# Altium footprint library Resistors THD.PcbLib: 108 footprints (part 1 of 7)
Each footprint in its own frame and in the unit in brackets; x right, y up, seen from the top. Pads: shape width x height; smd on the part's side, far side on the other; paste and mask are expansions set on the pad; w line width, h text height; cw(c..) or ccw(c..) is an arc to the next point about the centre after c.
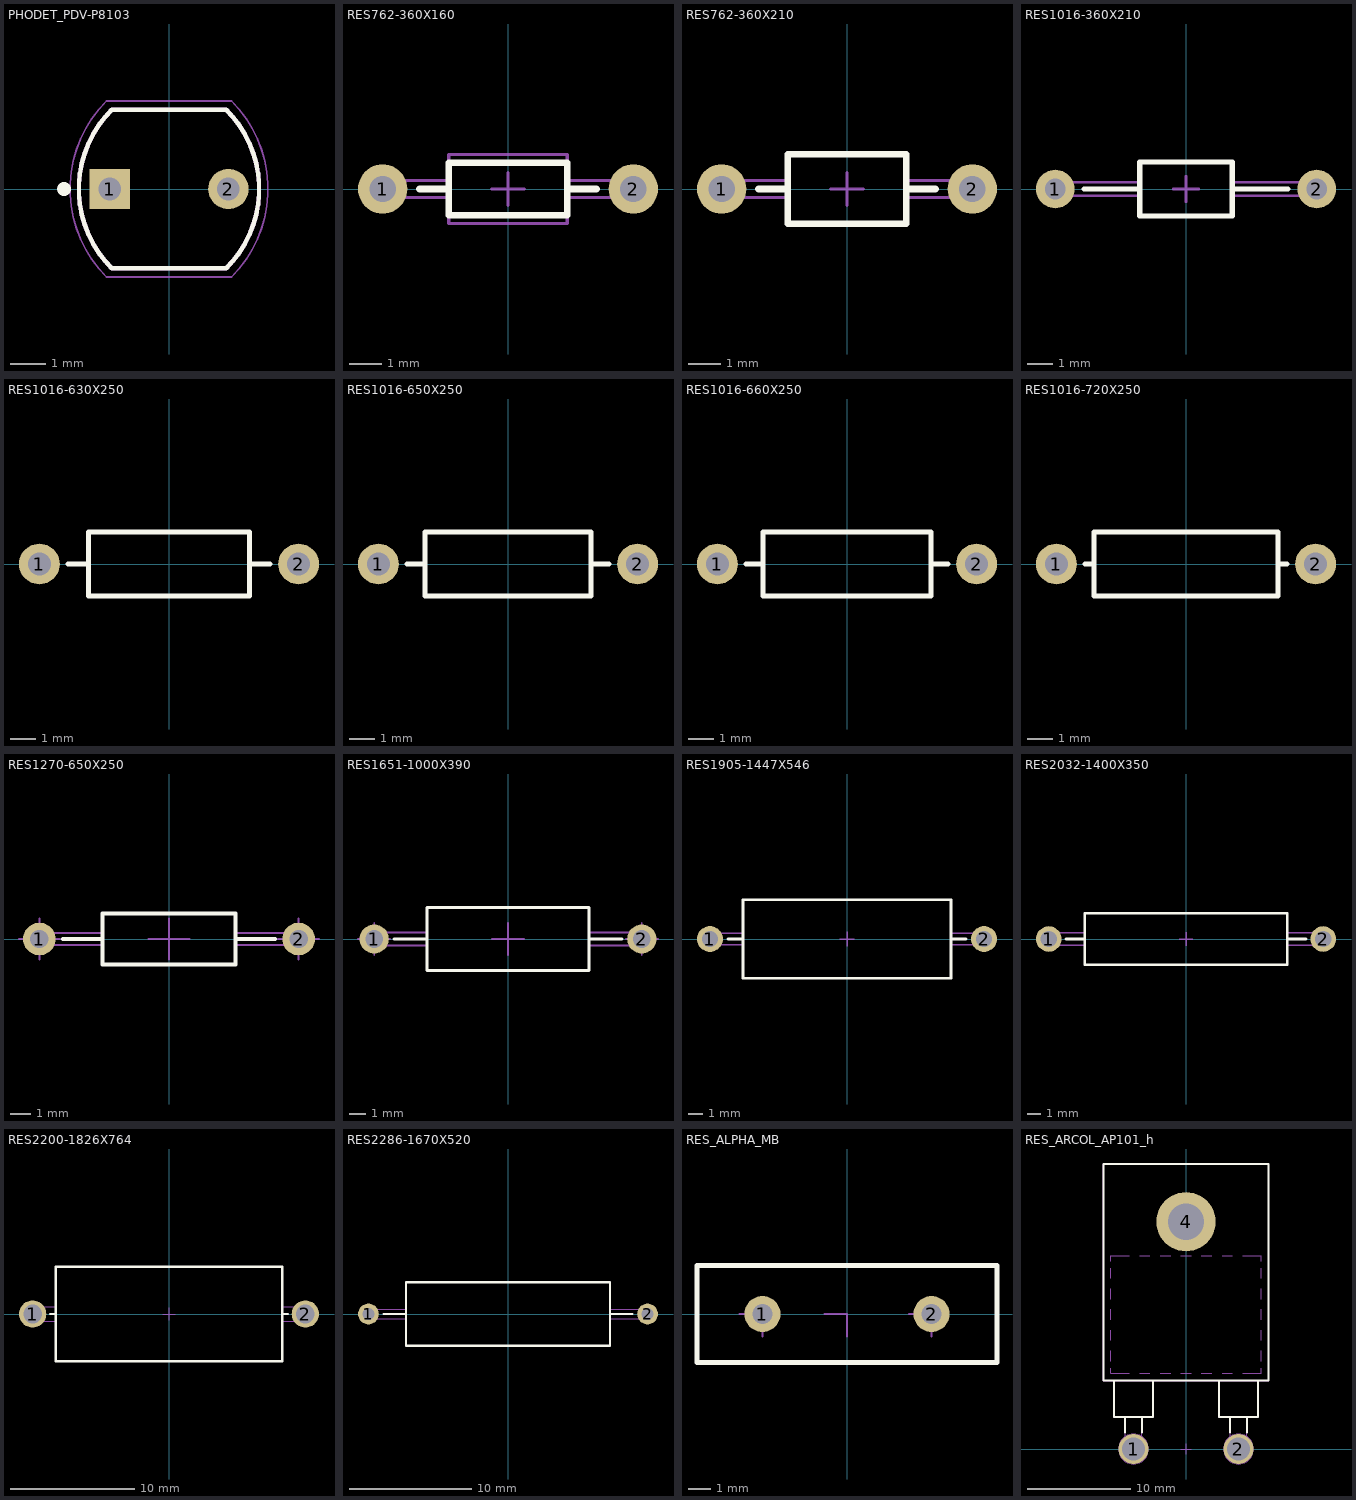
[diagram p0: the footprints below, top view; thin cyan lines are the x and y axes]

## PHODET_PDV-P8103 [mm]
pads (2):
  rect 1.158x1.158 hole 0.65: 1(-1.7,0)
  round 1.158 hole 0.65: 2(1.7,0)
Top Overlay:
  circle w0.2: c-3,0 r0.1
  lines w0.127: -1.64,-2.27 cw(c0.63,0) -1.64,2.27 1.64,2.27 cw(c-0.63,0) 1.64,-2.27 -1.64,-2.27
Mechanical 13:
  circle w0.2: c-1.7,0 r0.1
  lines w0.127: -1.64,-2.27 cw(c0.63,0) -1.64,2.27 1.64,2.27 cw(c-0.63,0) 1.64,-2.27 -1.64,-2.27
Mechanical 15:
  lines w0.05: -1.79,-2.52 cw(c0.73,0) -1.79,2.52 1.79,2.52 cw(c-0.73,0) 1.79,-2.52 -1.79,-2.52
3D body "PDV-P8103.STEP": height 2.38, standoff -26, extent -2.54,-2.145 2.54,2.145

## RES762-360X160 [mm] "Resistor, Axial, Pad spacing 7.62mm - Body Lengh 3.6mm X Body Diameter 1.6mm"
height 1.6
pads (2):
  round 1.5 hole 0.8: 1(-3.81,0) 2(3.81,0)
Top Overlay:
  lines w0.2: -2.69,0 -1.8,0 ; 1.8,0 2.69,0 ; -1.8,-0.8 1.8,-0.8 1.8,0.8 -1.8,0.8 -1.8,-0.8
Mechanical 8:
  lines w0.1: -4.31,0 -3.81,0 ; -3.81,-0.5 -3.81,0 ; -3.81,0.5 -3.81,0 ; -3.31,0 -3.81,0 ; -0.5,0 0,0 ; 0,-0.5 0,0 ; 0,0.5 0,0 ; 0.5,0 0,0 ; 3.31,0 3.81,0 ; 3.81,-0.5 3.81,0 ; 3.81,0.5 3.81,0 ; 4.31,0 3.81,0
Mechanical 14:
  lines w0.1: -1.8,-0.26 -3.81,-0.26 cw(c-3.81,0) -3.81,0.26 -1.8,0.26 ; 1.8,-0.26 3.81,-0.26 ccw(c3.81,0) 3.81,0.26 1.8,0.26 ; -1.8,-1.05 1.8,-1.05 1.8,1.05 -1.8,1.05 -1.8,-1.05
3D body "RES762-360X160.stp": height 1.6, standoff -3.85, extent -4.068,-0.8 4.068,0.8

## RES762-360X210 [mm] "Resistor, Axial, Pad spacing 7.62mm - Body Lengh 3.6mm X Body Diameter 2.1mm"
height 2.1
pads (2):
  round 1.5 hole 0.8: 1(-3.81,0) 2(3.81,0)
Top Overlay:
  lines w0.2: -2.69,0 -1.8,0 ; 1.8,0 2.69,0 ; -1.8,-1.05 1.8,-1.05 1.8,1.05 -1.8,1.05 -1.8,-1.05
Mechanical 8:
  lines w0.1: -4.31,0 -3.81,0 ; -3.81,-0.5 -3.81,0 ; -3.81,0.5 -3.81,0 ; -3.31,0 -3.81,0 ; -0.5,0 0,0 ; 0,-0.5 0,0 ; 0,0.5 0,0 ; 0.5,0 0,0 ; 3.31,0 3.81,0 ; 3.81,-0.5 3.81,0 ; 3.81,0.5 3.81,0 ; 4.31,0 3.81,0
Mechanical 14:
  lines w0.1: -1.8,-0.26 -3.81,-0.26 cw(c-3.81,0) -3.81,0.26 -1.8,0.26 ; 1.8,-0.26 3.81,-0.26 ccw(c3.81,0) 3.81,0.26 1.8,0.26 ; -1.8,-1.05 1.8,-1.05 1.8,1.05 -1.8,1.05 -1.8,-1.05
3D body "RES762-360X210.stp": height 2.1, standoff -3.6, extent -4.07,-1.05 4.07,1.05

## RES1016-360X210 [mm] "Resistor, Axial, Pad spacing 10.16 mm - Body Lengh 3.6mm X Body Diameter 2.1mm"
height 2.1
pads (2):
  round 1.5 hole 0.8: 1(-5.08,0) 2(5.08,0)
Top Overlay:
  lines w0.2: -3.96,0 -1.8,0 ; 1.8,0 3.96,0 ; -1.8,-1.05 1.8,-1.05 1.8,1.05 -1.8,1.05 -1.8,-1.05
Mechanical 8:
  lines w0.1: -5.58,0 -5.08,0 ; -5.08,-0.5 -5.08,0 ; -5.08,0.5 -5.08,0 ; -4.58,0 -5.08,0 ; -0.5,0 0,0 ; 0,-0.5 0,0 ; 0,0.5 0,0 ; 0.5,0 0,0 ; 4.58,0 5.08,0 ; 5.08,-0.5 5.08,0 ; 5.08,0.5 5.08,0 ; 5.58,0 5.08,0
Mechanical 14:
  lines w0.1: -1.8,-0.26 -5.08,-0.26 cw(c-5.08,0) -5.08,0.26 -1.8,0.26 ; 1.8,-0.26 5.08,-0.26 ccw(c5.08,0) 5.08,0.26 1.8,0.26 ; -1.8,-1.05 1.8,-1.05 1.8,1.05 -1.8,1.05 -1.8,-1.05
3D body "RES1016-360X210.stp": height 2.1, standoff -3.6, extent -5.34,-1.05 5.34,1.05

## RES1016-630X250 [mm] "Resistor, Axial, Pad spacing 10.16 mm - Body Lengh 6.3mm X Body Diameter 2.5mm"
height 2.5
pads (2):
  round 1.6 hole 0.9: 1(-5.08,0) 2(5.08,0)
Top Overlay:
  lines w0.2: -3.95,0 -3.15,0 ; 3.15,0 3.95,0 ; -3.15,-1.25 3.15,-1.25 3.15,1.25 -3.15,1.25 -3.15,-1.25
Mechanical 14:
  lines w0.1: -3.95,0 -3.15,0 ; 3.15,0 3.95,0 ; -3.15,-1.25 -3.15,1.25 3.15,1.25 3.15,-1.25 -3.15,-1.25
3D body "RES1016-630X250.stp": height 2.51, standoff -3.2, extent -5.38,-1.27 5.38,1.26

## RES1016-650X250 [mm] "Resistor, Axial, Pad spacing 10.16 mm - Body Lengh 6.5mm X Body Diameter 2.5mm"
height 2.5
pads (2):
  round 1.6 hole 0.9: 1(-5.08,0) 2(5.08,0)
Top Overlay:
  lines w0.2: -3.95,0 -3.25,0 ; 3.25,0 3.95,0 ; -3.25,-1.25 -3.25,1.25 3.25,1.25 3.25,-1.25 -3.25,-1.25
Mechanical 14:
  lines w0.1: -3.95,0 -3.25,0 ; 3.25,0 3.95,0 ; -3.25,-1.25 3.25,-1.25 3.25,1.25 -3.25,1.25 -3.25,-1.25
3D body "RES1016-650X250.stp": height 2.51, standoff -3.2, extent -5.38,-1.27 5.38,1.26

## RES1016-660X250 [mm] "Resistor, Axial, Pad spacing 10.16 mm - Body Lengh 6.6mm X Body Diameter 2.5mm"
height 2.5
pads (2):
  round 1.6 hole 0.9: 1(-5.08,0) 2(5.08,0)
Top Overlay:
  lines w0.2: -3.95,0 -3.3,0 ; 3.3,0 3.95,0 ; -3.3,-1.25 3.3,-1.25 3.3,1.25 -3.3,1.25 -3.3,-1.25
Mechanical 14:
  lines w0.1: -3.95,0 -3.3,0 ; 3.3,0 3.95,0 ; -3.3,-1.25 -3.3,1.25 3.3,1.25 3.3,-1.25 -3.3,-1.25
3D body "RES1016-660X250.stp": height 2.5, standoff -3.1, extent -5.38,-1.25 5.38,1.25

## RES1016-720X250 [mm] "Resistor, Axial, Pad spacing 10.16 mm - Body Lengh 7.2mm X Body Diameter 2.5mm"
height 2.5
pads (2):
  round 1.6 hole 0.9: 1(-5.08,0) 2(5.08,0)
Top Overlay:
  lines w0.2: -3.95,0 -3.6,0 ; 3.6,0 3.95,0 ; -3.6,-1.25 3.6,-1.25 3.6,1.25 -3.6,1.25 -3.6,-1.25
Mechanical 14:
  lines w0.1: -3.95,0 -3.6,0 ; 3.6,0 3.95,0 ; -3.6,-1.25 -3.6,1.25 3.6,1.25 3.6,-1.25 -3.6,-1.25
3D body "RES1016-720X250.stp": height 2.5, standoff -3.2, extent -5.38,-1.25 5.38,1.25

## RES1270-650X250 [mm] "Resistor, Axial, Pad spacing 10.16 mm - Body Lengh 6.6mm X Body Diameter 2.5mm"
height 2.5
pads (2):
  round 1.6 hole 0.9: 1(-6.35,0) 2(6.35,0)
Top Overlay:
  lines w0.2: -5.2,0 -3.25,0 ; 3.25,0 5.2,0 ; -3.25,-1.25 -3.25,1.25 3.25,1.25 3.25,-1.25 -3.25,-1.25
Mechanical 8:
  lines w0.1: -7.35,0 -6.35,0 ; -6.35,-1 -6.35,0 ; -6.35,1 -6.35,0 ; -5.35,0 -6.35,0 ; -1,0 0,0 ; 0,-1 0,0 ; 0,1 0,0 ; 1,0 0,0 ; 5.35,0 6.35,0 ; 6.35,-1 6.35,0 ; 6.35,1 6.35,0 ; 7.35,0 6.35,0
Mechanical 14:
  lines w0.1: -3.25,-0.3 -6.336,-0.3 cw(c-6.35,0) -6.343,0.3 -3.25,0.3 ; 3.25,-0.3 6.35,-0.3 ccw(c6.35,0) 6.35,0.3 3.25,0.3 ; -3.25,-1.25 3.25,-1.25 3.25,1.25 -3.25,1.25 -3.25,-1.25
3D body "RES1270-650X250.stp": height 2.5, standoff -3.6, extent -6.65,-1.25 6.65,1.25

## RES1651-1000X390 [mm] "Resistor, Axial, Pad spacing 16.51mm - Body Lengh 10mm X Body Diameter 3.9mm"
height 3.9
pads (2):
  round 1.8 hole 1.1: 1(-8.255,0) 2(8.255,0)
Top Overlay:
  lines w0.2: -7.018,0 -5,0 ; 5,0 7.018,0 ; -5,-1.95 -5,1.95 ; -5,-1.95 5,-1.95 ; -5,-1.95 5,-1.95 ; -5,-1.95 -5,1.95 ; -5,1.95 5,1.95 ; -5,1.95 5,1.95 ; 5,-1.95 5,1.95 ; 5,-1.95 5,1.95
Mechanical 8:
  lines w0.1: -9.255,0 -8.255,0 ; -8.255,-1 -8.255,0 ; -8.255,1 -8.255,0 ; -7.255,0 -8.255,0 ; -1,0 0,0 ; 0,-1 0,0 ; 0,1 0,0 ; 1,0 0,0 ; 7.255,0 8.255,0 ; 8.255,-1 8.255,0 ; 8.255,1 8.255,0 ; 9.255,0 8.255,0
Mechanical 14:
  lines w0.1: -5,-0.4 -8.255,-0.4 cw(c-8.255,0) -8.255,0.4 -5,0.4 ; 5,-0.4 8.255,-0.4 ccw(c8.255,0) 8.255,0.4 5,0.4 ; -5,-1.95 5,-1.95 5,1.95 -5,1.95 -5,-1.95
3D body "RES1651-1000X390.stp": height 3.9, standoff -3.8, extent -8.645,-1.95 8.645,1.95

## RES1905-1447X546 [mm] "Resistor, Axial, Pad spacing 19.05mm - Body Lengh 14.22mm X Body Diameter 5.21mm"
height 5.46
pads (2):
  round 1.8 hole 1.1: 1(-9.525,0) 2(9.525,0)
Top Overlay:
  lines w0.2: -8.275,0 -7.235,0 ; 7.235,0 8.275,0 ; -7.235,-2.73 -7.235,2.73 7.235,2.73 7.235,-2.73 -7.235,-2.73
Mechanical 8:
  lines w0.1: -10.025,0 -9.525,0 ; -9.525,-0.5 -9.525,0 ; -9.525,0.5 -9.525,0 ; -9.025,0 -9.525,0 ; -0.5,0 0,0 ; 0,-0.5 0,0 ; 0,0.5 0,0 ; 0.5,0 0,0 ; 9.025,0 9.525,0 ; 9.525,-0.5 9.525,0 ; 9.525,0.5 9.525,0 ; 10.025,0 9.525,0
Mechanical 14:
  lines w0.1: -7.235,-0.4 -9.525,-0.4 cw(c-9.525,0) -9.525,0.4 -7.235,0.4 ; 7.235,-0.4 9.525,-0.4 ccw(c9.525,0) 9.525,0.4 7.235,0.4 ; -7.235,-2.73 -7.235,2.73 7.235,2.73 7.235,-2.73 -7.235,-2.73
3D body "RES1905-1447X546.stp": height 5.46, standoff -3.6, extent -9.931,-2.73 9.932,2.73

## RES2032-1400X350 [mm] "Resistor, Axial, Pad spacing 20.32mm - Body Lengh 14mm X Body Diameter 3.5mm"
height 3.8
pads (2):
  round 1.9 hole 1.2: 1(-10.16,0) 2(10.16,0)
Top Overlay:
  lines w0.2: -8.887,0 -7.5,0 ; 7.5,0 8.887,0 ; -7.5,-1.9 7.5,-1.9 7.5,1.9 -7.5,1.9 -7.5,-1.9
Mechanical 8:
  lines w0.1: -10.66,0 -10.16,0 ; -10.16,-0.5 -10.16,0 ; -10.16,0.5 -10.16,0 ; -9.66,0 -10.16,0 ; -0.5,0 0,0 ; 0,-0.5 0,0 ; 0,0.5 0,0 ; 0.5,0 0,0 ; 9.66,0 10.16,0 ; 10.16,-0.5 10.16,0 ; 10.16,0.5 10.16,0 ; 10.66,0 10.16,0
Mechanical 14:
  lines w0.1: -7.5,-0.45 -10.16,-0.45 cw(c-10.16,0) -10.16,0.45 -7.5,0.45 ; 7.5,-0.45 10.16,-0.45 ccw(c10.16,0) 10.16,0.45 7.5,0.45 ; -7.5,-1.9 7.5,-1.9 7.5,1.9 -7.5,1.9 -7.5,-1.9
3D body "RES2032-1400X350.stp": height 3.8, standoff -3.6, extent -10.61,-1.9 10.61,1.9

## RES2200-1826X764 [mm] "Resistor, Axial, Pad spacing 22mm - Body Lengh 18.26mm X Body Diameter 7.64mm"
height 7.64
pads (2):
  round 2.2 hole 1.5: 1(-11,0) 2(11,0)
Top Overlay:
  lines w0.2: -9.575,0 -9.13,0 ; 9.13,0 9.575,0 ; -9.13,-3.82 -9.13,3.82 9.13,3.82 9.13,-3.82 -9.13,-3.82
Mechanical 8:
  lines w0.1: -11.5,0 -11,0 ; -11,-0.5 -11,0 ; -11,0.5 -11,0 ; -10.5,0 -11,0 ; -0.5,0 0,0 ; 0,-0.5 0,0 ; 0,0.5 0,0 ; 0.5,0 0,0 ; 10.5,0 11,0 ; 11,-0.5 11,0 ; 11,0.5 11,0 ; 11.5,0 11,0
Mechanical 14:
  lines w0.1: -9.13,-3.82 -9.13,3.82 9.13,3.82 9.13,-3.82 -9.13,-3.82
Mechanical 15:
  lines w0.1: -9.13,-0.6 -11,-0.6 cw(c-11,0) -11,0.6 -9.13,0.6 ; 9.13,-0.6 11,-0.6 ccw(c11,0) 11,0.6 9.13,0.6
3D body "RES2200-1826X764.stp": height 7.65, standoff -3.6, extent -11.6,-3.82 11.6,3.82

## RES2286-1670X520 [mm] "Resistor, Axial, Pad spacing 22.22 mm - Body Lengh 16.7mm X Body Diameter 5.2mm"
height 5.2
pads (2):
  round 1.7 hole 1: 1(-11.43,0) 2(11.43,0)
Top Overlay:
  lines w0.2: -10.16,0 -8.35,0 ; 8.35,0 10.16,0 ; -8.35,-2.6 -8.35,2.6 8.35,2.6 8.35,-2.6 -8.35,-2.6
Mechanical 14:
  lines w0.1: -11.43,-0.4 -8.35,-0.4 ; -11.43,0.4 -8.35,0.4 ; 8.35,-0.4 11.43,-0.4 ; 8.35,0.4 11.43,0.4 ; -8.35,-2.6 8.35,-2.6 8.35,2.6 -8.35,2.6 -8.35,-2.6
3D body "RES2286-1670X520.stp": height 5.2, standoff -3.6, extent -11.82,-2.6 11.82,2.6

## RES_ALPHA_MB [mm] "Resistor, Radial, Pad spacing 7.5mm - Body 13.3mm X 4.3mm X 10.3mm H"
height 10.3
pads (2):
  round 1.6 hole 0.9: 1(-3.75,0) 2(3.75,0)
Top Overlay:
  lines w0.2: -6.65,-2.15 -6.65,2.15 6.65,2.15 6.65,-2.15 -6.65,-2.15
Mechanical 8:
  lines w0.1: -4.75,0 -3.75,0 -3.75,-1 ; -1,0 0,0 0,-1 ; 2.75,0 3.75,0 3.75,-1
Mechanical 14:
  lines w0.1: -6.65,-2.15 6.65,-2.15 6.65,2.15 -6.65,2.15 -6.65,-2.15
3D body "RES_ALPHA_MB.stp": height 10.3, standoff -3.1, extent -6.65,-2.15 6.65,2.15

## RES_ARCOL_AP101_h [mm] "ARCOL AP101SerieS TO-247 Style, 100W High Power Resistor - Horizontal Mount"
height 5.21
pads (3):
  round 2.9 hole 2.2: 1(-5.08,0) 2(5.08,0)
  round 5.75 hole 3.5: 4(0,22)
Top Overlay:
  lines w0.2: -6.985,6.63 -6.985,3.08 -3.175,3.08 -3.175,6.63 ; -5.89,1.607 -5.89,3.08 ; -4.27,1.607 -4.27,3.08 ; 3.175,6.63 3.175,3.08 6.985,3.08 6.985,6.63 ; 4.27,1.607 4.27,3.08 ; 5.89,1.607 5.89,3.08 ; -8,6.63 8,6.63 8,27.59 -8,27.59 -8,6.63
Mechanical 8:
  circle w0.1: c-5.08,0 r1.1
  circle w0.1: c-5.08,0 r1.45
  circle w0.1: c5.08,0 r1.1
  circle w0.1: c5.08,0 r1.45
  lines w0.1: -5.58,0 -5.08,0 ; -5.08,-0.5 -5.08,0 ; -5.08,0.5 -5.08,0 ; -4.58,0 -5.08,0 ; -0.5,0 0,0 ; -0.5,22 0,22 ; 0,-0.5 0,0 ; 0,0.5 0,0 ; 0,21.5 0,22 ; 0,22.5 0,22 ; 0.5,0 0,0 ; 0.5,22 0,22 ; 4.58,0 5.08,0 ; 5.08,-0.5 5.08,0 ; 5.08,0.5 5.08,0 ; 5.58,0 5.08,0
Mechanical 14:
  circle w0.1: c0,22 r1.865
  lines w0.1: -7.3,7.83 -7.3,7.33 -5.5,7.33 ; -7.3,8.51 -7.3,9.51 ; -7.3,10.51 -7.3,11.51 ; -7.3,12.51 -7.3,13.51 ; -7.3,14.51 -7.3,15.51 ; -7.3,16.51 -7.3,17.51 ; -7.3,18.19 -7.3,18.69 -5.5,18.69 ; -6.985,6.63 -6.985,3.08 -3.175,3.08 -3.175,6.63 ; -5.89,3.08 -5.89,-0.535 -4.27,-0.535 -4.27,3.08 ; -4.5,7.33 -3.5,7.33 ; -4.5,18.69 -3.5,18.69 ; -2.5,7.33 -1.5,7.33 ; -2.5,18.69 -1.5,18.69 ; -0.5,7.33 0.5,7.33 ; -0.5,18.69 0.5,18.69 ; 1.5,7.33 2.5,7.33 ; 1.5,18.69 2.5,18.69 ; 3.175,6.63 3.175,3.08 6.985,3.08 6.985,6.63 ; 3.5,7.33 4.5,7.33 ; 3.5,18.69 4.5,18.69 ; 4.27,3.08 4.27,-0.535 5.89,-0.535 5.89,3.08 ; 5.5,7.33 7.3,7.33 7.3,7.83 ; 5.5,18.69 7.3,18.69 7.3,18.19 ; 7.3,8.51 7.3,9.51 ; 7.3,10.51 7.3,11.51 ; 7.3,12.51 7.3,13.51 ; 7.3,14.51 7.3,15.51 ; 7.3,16.51 7.3,17.51 ; -8,6.63 8,6.63 8,27.59 -8,27.59 -8,6.63
3D body "RES_ARCOL_AP101_h.stp": height 5.21, standoff -3, extent -8,-0.535 8,27.59